# Altium footprint library molex-fpc.PcbLib: 2 footprints
Each footprint in its own frame and in the unit in brackets; x right, y up, seen from the top. Pads: shape width x height; smd on the part's side, far side on the other; paste and mask are expansions set on the pad; w line width, h text height; cw(c..) or ccw(c..) is an arc to the next point about the centre after c.
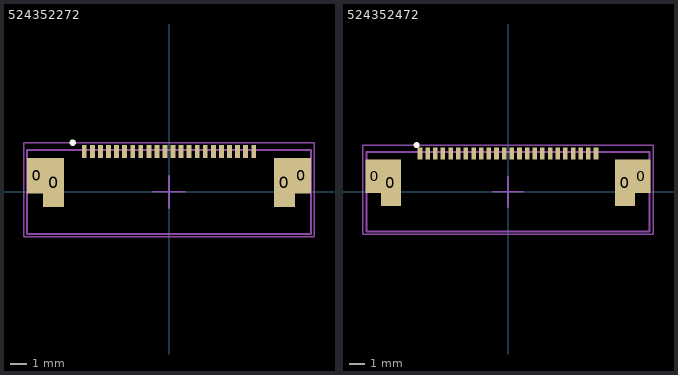
[diagram p0: the footprints below, top view; thin cyan lines are the x and y axes]

## 524352272 [mm] "CONN FFC FPC TOP 22POS 0.5MM R/A"
pads (26):
  rect 1.2x2.2 smd: 0(-8.2,1) 0(8.2,1)
  rect 1.3x3.05 smd: 0(-7.15,0.575) 0(7.15,0.575)
  rect 0.3x0.8 smd paste+0 mask+0.076: 1(-5.25,2.5) 2(-4.75,2.5) 3(-4.25,2.5) 4(-3.75,2.5) 5(-3.25,2.5) 6(-2.75,2.5) 7(-2.25,2.5) 8(-1.75,2.5) 9(-1.25,2.5) 10(-0.75,2.5) 11(-0.25,2.5) 12(0.25,2.5) 13(0.75,2.5) 14(1.25,2.5) 15(1.75,2.5) 16(2.25,2.5) 17(2.75,2.5) 18(3.25,2.5) 19(3.75,2.5) 20(4.25,2.5) 21(4.75,2.5) 22(5.25,2.5)
Top Overlay:
  circle w0.2: c-5.969,3.048 r0.1
Mechanical 13:
  lines w0.127: -8.8,-2.6 8.8,-2.6 8.8,2.6 -8.8,2.6 -8.8,-2.6
Mechanical 15:
  lines w0.1: -1,0 1,0 ; 0,-1 0,1 ; -9.017,-2.794 9.017,-2.794 9.017,3.048 -9.017,3.048 -9.017,-2.794
3D body "0524352272.stp": height 2.12, standoff -0.04, extent -8.8,-2.651 8.8,2.549

## 524352472 [mm] "CONN FFC FPC TOP 24POS 0.5MM R/A"
pads (28):
  rect 1.2x2.2 smd: 0(-8.7,1) 0(8.7,1)
  rect 1.3x3.05 smd: 0(-7.65,0.575) 0(7.65,0.575)
  rect 0.3x0.8 smd paste+0 mask+0.076: 1(-5.75,2.5) 2(-5.25,2.5) 3(-4.75,2.5) 4(-4.25,2.5) 5(-3.75,2.5) 6(-3.25,2.5) 7(-2.75,2.5) 8(-2.25,2.5) 9(-1.75,2.5) 10(-1.25,2.5) 11(-0.75,2.5) 12(-0.25,2.5) 13(0.25,2.5) 14(0.75,2.5) 15(1.25,2.5) 16(1.75,2.5) 17(2.25,2.5) 18(2.75,2.5) 19(3.25,2.5) 20(3.75,2.5) 21(4.25,2.5) 22(4.75,2.5) 23(5.25,2.5) 24(5.75,2.5)
Top Overlay:
  circle w0.2: c-5.969,3.048 r0.1
Mechanical 13:
  lines w0.127: -9.25,-2.6 9.25,-2.6 9.25,2.6 -9.25,2.6 -9.25,-2.6
Mechanical 15:
  lines w0.1: -1,0 1,0 ; 0,-1 0,1 ; -9.5,-2.794 9.5,-2.794 9.5,3.048 -9.5,3.048 -9.5,-2.794
3D body "524352472.stp": height 1.97, standoff -0.19, extent -9.3,-4 9.3,2.6